# EAGLE library part ESP (library microcodes)
renamed some pins to their more useful function
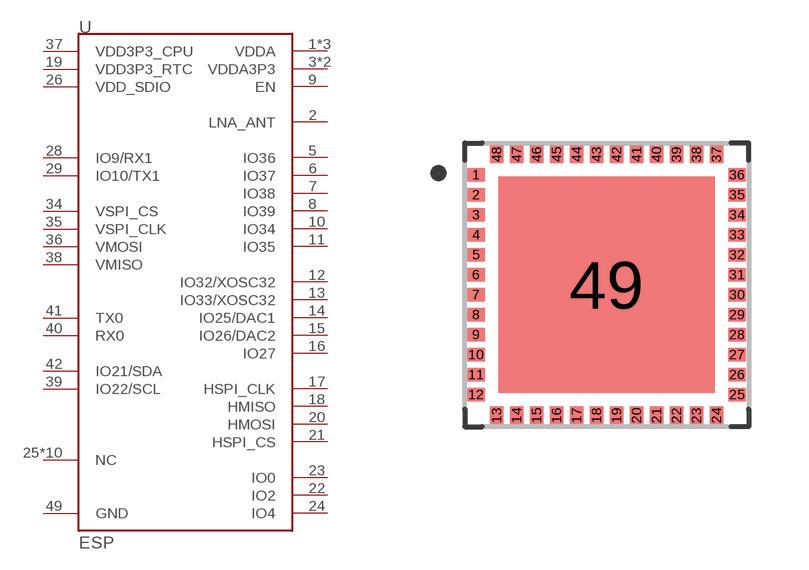
[diagram p8: symbol with the pads of QFN49; footprint QFN49]

Designator prefix -

## ESP  [QFN49]
1  VDDA  pwr
2  LNA_ANT
3  VDDA3P3  pwr
4  VDDA3P3  pwr
5  IO36  in
6  IO37  in
7  IO38  in
8  IO39  in
9  EN  in
10  IO34  in
11  IO35  in
12  IO32/XOSC32
13  IO33/XOSC32
14  IO25/DAC1
15  IO26/DAC2
16  IO27
17  HSPI_CLK
18  HMISO
19  VDD3P3_RTC  pwr
20  HMOSI
21  HSPI_CS
22  IO2
23  IO0
24  IO4
25  NC
26  VDD_SDIO  out
27  NC
28  IO9/RX1
29  IO10/TX1
30  NC
31  NC
32  NC
33  NC
34  VSPI_CS
35  VSPI_CLK
36  VMOSI
37  VDD3P3_CPU  pwr
38  VMISO
39  IO22/SCL
40  RX0
41  TX0
42  IO21/SDA
43  VDDA  pwr
44  NC
45  NC
46  VDDA  pwr
47  NC
48  NC
49  GND  pwr

## Footprint QFN49 (pad centres in mm)
as on https://www.snapeda.com/parts/ESP32-PICO-D4/Espressif%20Systems/view-part/
smd 0.45 x 0.35: 1 -3.265,2.75; 2 -3.265,2.25; 3 -3.265,1.75; 4 -3.265,1.25; 5 -3.265,0.75; 6 -3.265,0.25; 7 -3.265,-0.25; 8 -3.265,-0.75; 9 -3.265,-1.25; 10 -3.265,-1.75; 11 -3.265,-2.25; 12 -3.265,-2.75; 25 3.265,-2.75; 26 3.265,-2.25; 27 3.265,-1.75; 28 3.265,-1.25; 29 3.265,-0.75; 30 3.265,-0.25; 31 3.265,0.25; 32 3.265,0.75; 33 3.265,1.25; 34 3.265,1.75; 35 3.265,2.25; 36 3.265,2.75
smd 0.35 x 0.45: 13 -2.75,-3.265; 14 -2.25,-3.265; 15 -1.75,-3.265; 16 -1.25,-3.265; 17 -0.75,-3.265; 18 -0.25,-3.265; 19 0.25,-3.265; 20 0.75,-3.265; 21 1.25,-3.265; 22 1.75,-3.265; 23 2.25,-3.265; 24 2.75,-3.265; 37 2.75,3.265; 38 2.25,3.265; 39 1.75,3.265; 40 1.25,3.265; 41 0.75,3.265; 42 0.25,3.265; 43 -0.25,3.265; 44 -0.75,3.265; 45 -1.25,3.265; 46 -1.75,3.265; 47 -2.25,3.265; 48 -2.75,3.265
smd 5.4 x 5.4: 49 0,0